# EAGLE library part HMC5883L (library ic-Honeywell)
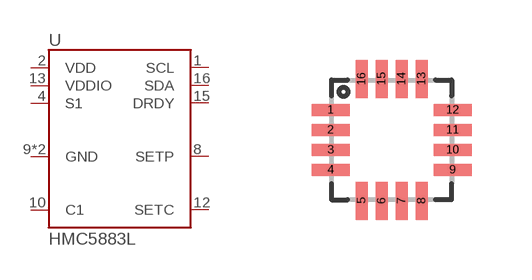
[diagram p0: symbol with the pads of QFN16-0.5; footprint QFN16-0.5]

Designator prefix U

## HMC5883L  [QFN16-0.5]
1  SCL
2  VDD
4  S1
8  SETP
9  GND
10  C1
11  GND
12  SETC
13  VDDIO
15  DRDY
16  SDA

## Footprint QFN16-0.5 (pad centres in mm)
smd 0.95 x 0.3: 1 -1.525,0.75; 2 -1.525,0.25; 3 -1.525,-0.25; 4 -1.525,-0.75; 9 1.525,-0.75; 10 1.525,-0.25; 11 1.525,0.25; 12 1.525,0.75
smd 0.3 x 0.95: 5 -0.75,-1.525; 6 -0.25,-1.525; 7 0.25,-1.525; 8 0.75,-1.525; 13 0.75,1.525; 14 0.25,1.525; 15 -0.25,1.525; 16 -0.75,1.525